# EAGLE library part TEXAS_INSTRUMENTS_TPS7A84 (library Poe)
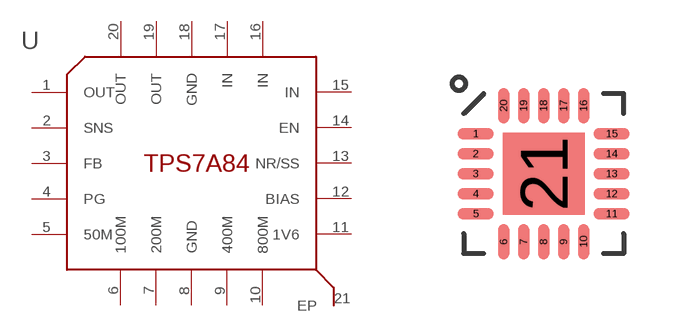
[diagram p5: symbol with the pads of S-PVQFN-N20; footprint S-PVQFN-N20]

Designator prefix U

## TEXAS_INSTRUMENTS_TPS7A84  [S-PVQFN-N20]
1  OUT
2  SNS
3  FB
4  PG
5  50M
6  100M
7  200M
8  GND
9  400M
10  800M
11  1V6
12  BIAS
13  NR/SS
14  EN
15  IN
16  IN
17  IN
18  GND
19  OUT
20  OUT
21  EP

## Footprint S-PVQFN-N20 (pad centres in mm)
smd 0.9 x 0.28: 1 -1.7,1; 2 -1.7,0.5; 3 -1.7,0; 4 -1.7,-0.5; 5 -1.7,-1; 11 1.7,-1; 12 1.7,-0.5; 13 1.7,0; 14 1.7,0.5; 15 1.7,1
smd 0.28 x 0.9: 6 -1,-1.7; 7 -0.5,-1.7; 8 0,-1.7; 9 0.5,-1.7; 10 1,-1.7; 16 1,1.7; 17 0.5,1.7; 18 0,1.7; 19 -0.5,1.7; 20 -1,1.7
smd 2.05 x 2.05: 21 0,0